# Altium schematic symbol library PMIC - Battery Management.SchLib: 1 symbol
Pins are listed as number, name and electrical type; pins without a type are passive.

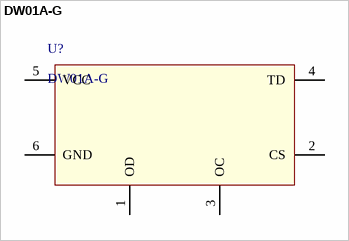
[diagram p0: symbol DW01A-G]

## DW01A-G
designator U?
One Cell Lithium-ion/Polymer Battery Protection IC; Manufacturer: Fortune; Manufacturer Part Number: DW01A-G; Category: Integrated Circuits (ICs); Mounting Type: Surface Mount; Supplier Device Package: SOT23-6; ComponentLink1URL: http://www.ic-fortune.com/upload/Download/DW01x-DS-17_EN.pdf; ComponentLink1Description: http://www.ic-fortune.com/upload/Download/DW01x-DS-17_EN.pdf; Package: SOT23-6
footprint SOT-23-6 (SOT23, 6-Leads, Body 3.0x3.0mm (max), Pitch 0.95mm, IPC Medium Density)
pins: 1 OD "MOSFET gate connection pin for discharge control", 2 CS "Input pin for current sense, charger detect", 3 OC "MOSFET gate connection pin for charge control", 4 TD "Test pin for reduce delay time", 5 VCC "Power supply, through a resistor (R1)", 6 GND "Ground pin"